# Altium footprint library AX7035_PCB_AD.PcbLib: 47 footprints (part 2 of 3)
Each footprint in its own frame and in the unit in brackets; x right, y up, seen from the top. Pads: shape width x height; smd on the part's side, far side on the other; paste and mask are expansions set on the pad; w line width, h text height; cw(c..) or ccw(c..) is an arc to the next point about the centre after c.
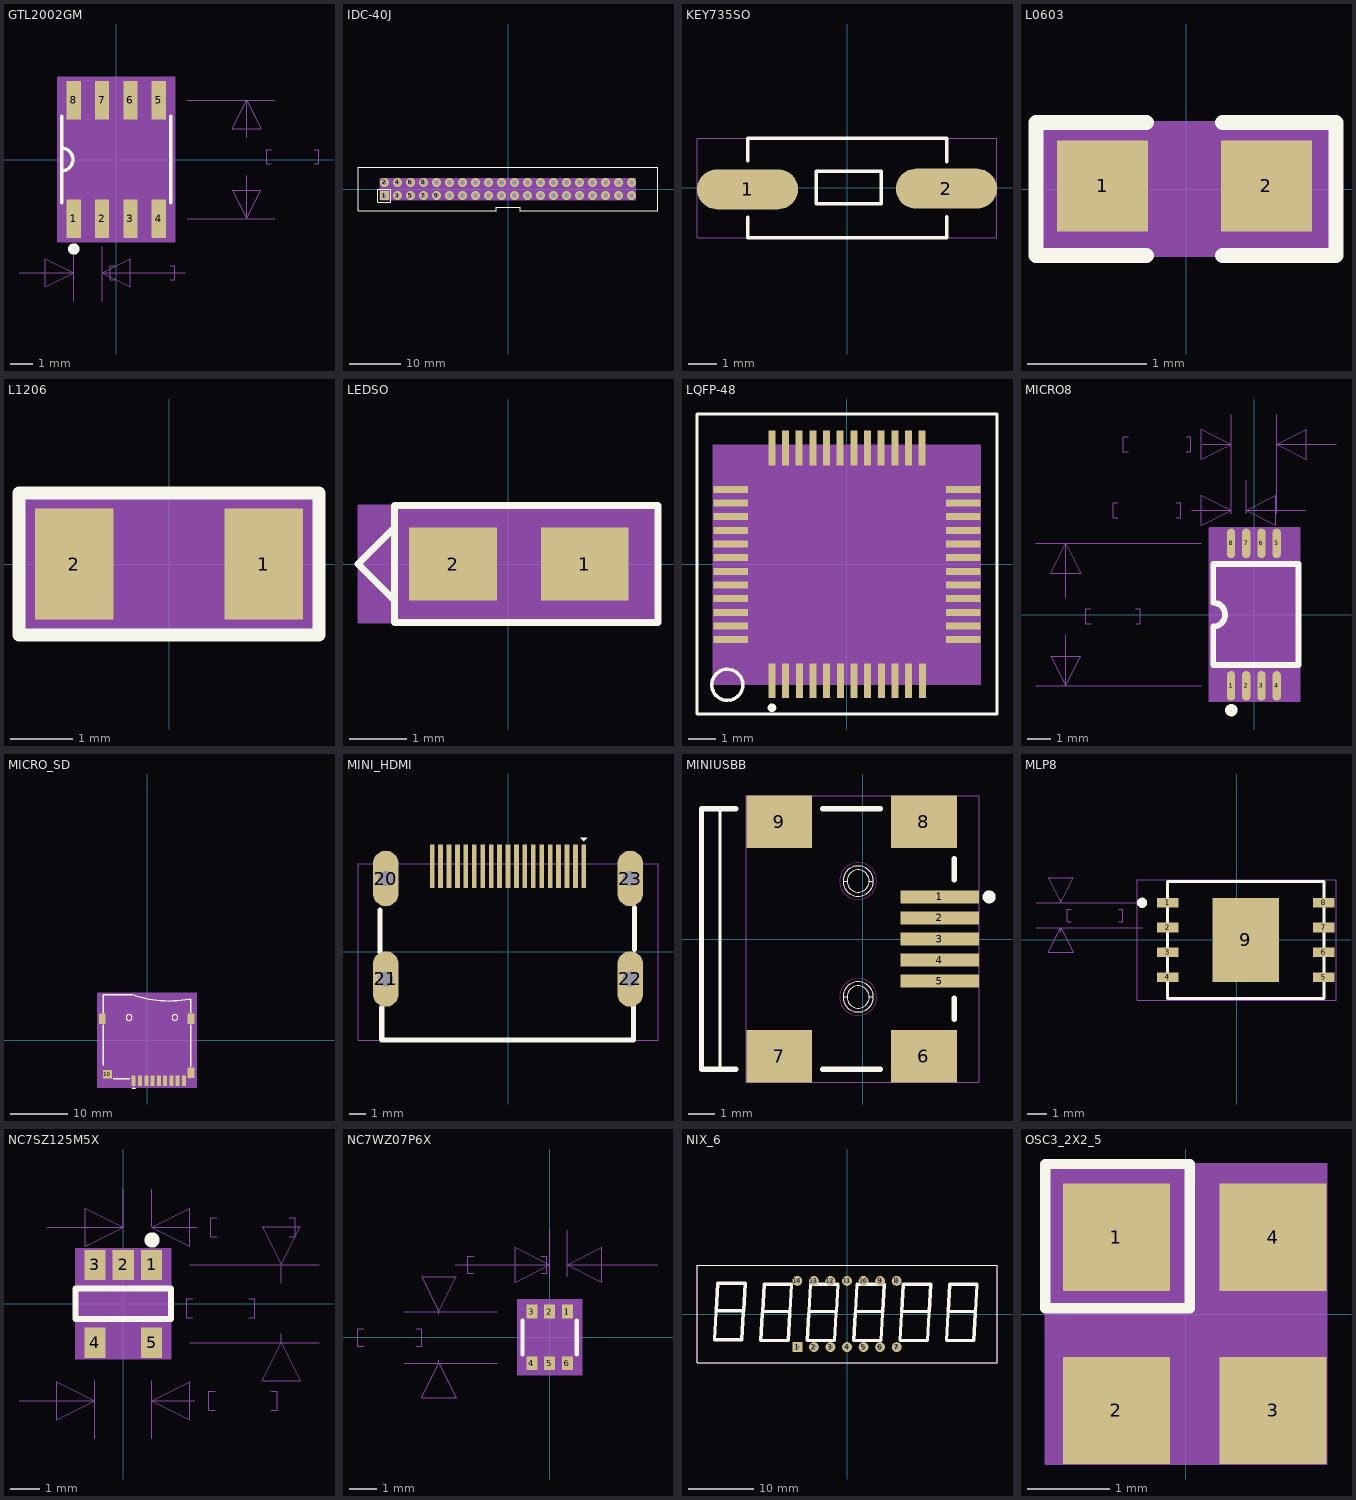
[diagram p1: the footprints below, top view; thin cyan lines are the x and y axes]

## GTL2002GM [mil] "GTL2002GM"
pads (8):
  rect 25x68 smd: 1(-75,-104.33) 2(-25,-104.33) 3(25,-104.33) 4(75,-104.33) 5(75,104.33) 6(25,104.33) 7(-25,104.33) 8(-75,104.33)
Top Overlay:
  circle w10: c-75,-158 r5.1
  lines w6: -96.46,-76.77 -96.46,76.77 ; -96.46,-20 ccw(c-96.46,0) -76.46,0 ccw(c-96.46,0) -96.46,20 ; 96.46,-76.77 96.46,76.77
Mechanical 8:
  text "1" at -75,-114.33 h25
  text "8" at -75,94.33 h25
  text "7" at -25,94.33 h25
  text "6" at 25,94.33 h25
  text "5" at 75,94.33 h25
  text "3" at 25,-114.33 h25
  text "4" at 75,-114.33 h25
  text "2" at -25,-114.33 h25
Mechanical 9:
  lines w1: -171.75,-200 -75,-200 ; -75,-250 -75,-154.33 ; -25,-250 -25,-154.33 ; -3,-212.5 -11,-212.5 -11,-187.5 -3,-187.5 ; 95,-212.5 103,-212.5 103,-187.5 95,-187.5 ; 121.75,-200 -25,-200 ; 125,-104.33 280,-104.33 ; 125,104.33 280,104.33 ; 230,-28.25 230,-104.33 ; 230,38.25 230,104.33 ; 274,-7.5 266,-7.5 266,17.5 274,17.5 ; 350,-7.5 358,-7.5 358,17.5 350,17.5 ; -75,-200 -125,-175 -125,-225 -75,-200 ; -25,-200 25,-225 25,-175 -25,-200 ; 230,-104.33 255,-54.33 205,-54.33 230,-104.33 ; 230,104.33 205,54.33 255,54.33 230,104.33
  text "50.00" at -151,-212.5 h25
  text "1.27" at 5,-212.5 h25
  text "208.66" at 104,-7.5 h25
  text "5.3" at 282,-7.5 h25
Mechanical 12:
  region: -103.96,-145.83 103.96,-145.83 103.96,145.83 -103.96,145.83
Mechanical 13:
  text ".Designator" at 0,0 h25
3D body: height 150, standoff 0, extent -103.96,-145.83 103.96,145.83

## IDC-40J [mil] "IDC-40J"
pads (40):
  rect 68x68 hole 35: 1(-950,-50)
  round 68 hole 35: 2(-950,50) 3(-850,-50) 4(-850,50) 5(-750,-50) 6(-750,50) 7(-650,-50) 8(-650,50) 9(-550,-50) 10(-550,50) 11(-450,-50) 12(-450,50) 13(-350,-50) 14(-350,50) 15(-250,-50) 16(-250,50) 17(-150,-50) 18(-150,50) 19(-50,-50) 20(-50,50) 21(50,-50) 22(50,50) 23(150,-50) 24(150,50) 25(250,-50) 26(250,50) 27(350,-50) 28(350,50) 29(450,-50) 30(450,50) 31(550,-50) 32(550,50) 33(650,-50) 34(650,50) 35(750,-50) 36(750,50) 37(850,-50) 38(850,50) 39(950,-50) 40(950,50)
Top Overlay:
  lines w5: -1153.54,-166.54 -91.54,-166.54 -91,-140 90.02,-140 90.55,-166.54 1153.53,-166.54 1153.53,166.54 -1153.54,166.54 -1153.54,-166.54 ; -1000,-100 -1000,0 -900,0 -900,-100 -1000,-100
Mechanical 8:
  text "1" at -940,-50 h25
  text "38" at 870,50 h25
  text "37" at 870,-50 h25
  text "18" at -130,50 h25
  text "12" at -430,50 h25
  text "26" at 270,50 h25
  text "24" at 170,50 h25
  text "10" at -530,50 h25
  text "21" at 70,-50 h25
  text "4" at -840,50 h25
  text "11" at -430,-50 h25
  text "16" at -230,50 h25
  text "31" at 570,-50 h25
  text "30" at 470,50 h25
  text "19" at -30,-50 h25
  text "28" at 370,50 h25
  text "13" at -330,-50 h25
  text "35" at 770,-50 h25
  text "9" at -540,-50 h25
  text "23" at 170,-50 h25
  text "20" at -30,50 h25
  text "8" at -640,50 h25
  text "29" at 470,-50 h25
  text "15" at -230,-50 h25
  text "34" at 670,50 h25
  text "22" at 70,50 h25
  text "3" at -840,-50 h25
  text "7" at -640,-50 h25
  text "32" at 570,50 h25
  text "36" at 770,50 h25
  text "5" at -740,-50 h25
  text "33" at 670,-50 h25
  text "27" at 370,-50 h25
  text "17" at -130,-50 h25
  text "14" at -330,50 h25
  text "6" at -740,50 h25
  text "25" at 270,-50 h25
  text "39" at 970,-50 h25
  text "40" at 970,50 h25
  text "2" at -940,50 h25
Mechanical 12:
  region: -984,-84 984,-84 984,84 -984,84
Mechanical 13:
  lines w1: -984,-84 -984,84 984,84 984,-84 -984,-84
3D body: height 150, standoff 0, extent -984,-84 984,84

## KEY735SO [mil] "KEY735SO"
pads (2):
  oval 140x55.12 smd: 1(-137.5,-1.9) 2(137.5,-0.9)
Top Overlay:
  lines w5: -137.5,-40.9 -137.5,-68.9 138.09,-68.9 138.09,-39.9 ; -137.5,38.1 -137.5,68.9 138.09,68.9 138.09,36.1 ; -42.5,-21.9 -42.5,23.1 47.5,23.1 47.5,-21.9 -42.5,-21.9
Mechanical 8:
  text "2" at 127.5,-0.9 h25
  text "1" at -147.5,-1.9 h25
Mechanical 12:
  lines w1: -207.5,-68.9 -207.5,68.9 207.5,68.9 207.5,-68.9 -207.5,-68.9
Mechanical 13:
  lines w1: -207.5,-68.9 -207.5,68.9 207.5,68.9 207.5,-68.9 -207.5,-68.9

## L0603 [mil] "L0603"
pads (2):
  rect 30x30 smd: 1(-27.5,1) 2(26.5,1)
Top Overlay:
  lines w5: -13,-22 -49.5,-22 -49.5,22 -13,22 ; 12,-22 49.5,-22 49.5,22 12,22
  text ".Designator" at 46.5,-72.67 h25
Mechanical 8:
  text "2" at 36.5,1 h25
  text "1" at -17.5,1 h25
Mechanical 12:
  region: -49.5,-22 49.5,-22 49.5,22 -49.5,22
Mechanical 13:
  lines w1: -49.5,-22 -49.5,22 49.5,22 49.5,-22 -49.5,-22
3D body: height 150, standoff 0, extent -49.5,-22 49.5,22

## L1206 [mil] "L1206"
pads (2):
  rect 50x70 smd: 1(60,0) 2(-60,0)
Top Overlay:
  lines w8: -95,-45 -95,45 95,45 95,-45 -95,-45
  text ".Designator" at -46.5,-87.34 h25
Mechanical 8:
  text "2" at -60,-10 h25
  text "1" at 60,-10 h25
Mechanical 10:
  region: 95,-45 -95,-45 -95,45 95,45
3D body: height 150, standoff 0, extent -95,-45 95,45

## LEDSO [mil] "LEDSO"
pads (2):
  rect 60x50 smd: 1(52.5,0) 2(-37.5,0)
Top Overlay:
  lines w5: -77.5,-25 -102.5,0 -77.5,25 ; -77.5,-40 -77.5,40 102.5,40 102.5,-35 102.5,-40 -77.5,-40
Mechanical 8:
  text "1" at 62.5,0 h25
  text "2" at -27.5,0 h25
Mechanical 12:
  region: -102.5,-40 102.5,-40 102.5,40 -102.5,40
Mechanical 13:
  lines w1: -102.5,-40 -102.5,40 102.5,40 102.5,-40 -102.5,-40
3D body: height 150, standoff 0, extent -102.5,-40 102.5,40

## LQFP-48 [mil] "LQFP-48"
pads (48):
  rect 10x50 smd: 1(-107.95,-167.5) 2(-88.27,-167.5) 3(-68.58,-167.5) 4(-48.9,-167.5) 5(-29.21,-167.5) 6(-9.53,-167.5) 7(10.16,-167.5) 8(29.84,-167.5) 9(49.53,-167.5) 10(69.21,-167.5) 11(88.9,-167.5) 12(108.58,-167.5) 25(108.27,167.5) 26(88.58,167.5) 27(68.9,167.5) 28(49.21,167.5) 29(29.53,167.5) 30(9.84,167.5) 31(-9.84,167.5) 32(-29.53,167.5) 33(-49.21,167.5) 34(-68.9,167.5) 35(-88.58,167.5) 36(-108.26,167.5)
  rect 50x10 smd: 13(167.33,-108.44) 14(167.33,-88.76) 15(167.33,-69.07) 16(167.33,-49.39) 17(167.33,-29.7) 18(167.33,-10.02) 19(167.33,9.67) 20(167.33,29.35) 21(167.33,49.04) 22(167.33,68.72) 23(167.33,88.41) 24(167.33,108.09) 37(-167.32,108.09) 38(-167.32,88.41) 39(-167.32,68.72) 40(-167.32,49.04) 41(-167.32,29.35) 42(-167.32,9.67) 43(-167.32,-10.02) 44(-167.32,-29.7) 45(-167.32,-49.39) 46(-167.32,-69.07) 47(-167.32,-88.76) 48(-167.32,-108.44)
Top Overlay:
  circle w6: c-107.95,-206.5 r3.16
  circle w5: c-172.31,-173.5 r22.37
  lines w5: -215.95,-215.5 216.05,-215.5 216.05,216.5 -215.95,216.5 -215.95,-215.5
  text ".Designator" at -238.77,179.7 h25
Mechanical 8:
  text "42" at -167.32,-10.33 h25
  text "41" at -167.32,9.35 h25
  text "35" at -88.58,147.5 h25
  text "36" at -108.26,147.5 h25
  text "48" at -167.32,-128.44 h25
  text "47" at -167.32,-108.76 h25
  text "4" at -48.9,-177.5 h25
  text "10" at 69.21,-187.5 h25
  text "9" at 49.53,-177.5 h25
  text "11" at 88.9,-187.5 h25
  text "22" at 167.33,48.72 h25
  text "23" at 167.33,68.41 h25
  text "45" at -167.32,-69.39 h25
  text "44" at -167.32,-49.7 h25
  text "43" at -167.32,-30.02 h25
  text "33" at -49.21,147.5 h25
  text "32" at -29.53,147.5 h25
  text "13" at 167.33,-128.44 h25
  text "29" at 29.53,147.5 h25
  text "19" at 167.33,-10.33 h25
  text "14" at 167.33,-108.76 h25
  text "16" at 167.33,-69.39 h25
  text "18" at 167.33,-30.02 h25
  text "27" at 68.9,147.5 h25
  text "31" at -9.84,147.5 h25
  text "7" at 10.16,-177.5 h25
  text "21" at 167.33,29.04 h25
  text "1" at -107.95,-177.5 h25
  text "30" at 9.84,147.5 h25
  text "26" at 88.58,147.5 h25
  text "37" at -167.32,88.09 h25
  text "28" at 49.21,147.5 h25
  text "5" at -29.21,-177.5 h25
  text "34" at -68.9,147.5 h25
  text "38" at -167.32,68.41 h25
  text "25" at 108.27,147.5 h25
  text "6" at -9.53,-177.5 h25
  text "2" at -88.27,-177.5 h25
  text "40" at -167.32,29.04 h25
  text "3" at -68.58,-177.5 h25
  text "8" at 29.84,-177.5 h25
  text "46" at -167.32,-89.07 h25
  text "24" at 167.33,88.09 h25
  text "12" at 108.58,-187.5 h25
  text "39" at -167.32,48.72 h25
  text "17" at 167.33,-49.7 h25
  text "20" at 167.33,9.35 h25
  text "15" at 167.33,-89.07 h25
Mechanical 12:
  region: 192.33,172.5 -192.32,172.5 -192.32,-172.5 192.33,-172.5
Mechanical 13:
  lines w1: -192.32,-172.5 192.33,-172.5 192.33,172.5 -192.32,172.5 -192.32,-172.5
3D body: height 150, standoff 0, extent -192.32,-172.5 192.33,172.5

## MICRO8 [mil] "MICRO8"
pads (8):
  oval 14x50 smd: 1(-39.39,-120) 2(-13.79,-120) 3(11.79,-120) 4(37.39,-120) 5(37.39,120) 6(11.79,120) 7(-13.79,120) 8(-39.39,120)
Top Overlay:
  circle w10: c-39,-161 r5.39
  lines w10: -69.39,-85 74,-85 74,85 -69.39,85 -69.39,20 cw(c-69.39,0) -69.39,-20 -69.39,-85
  text ".Designator" at -94.3,-30.11 h25
Mechanical 8:
  text "3" at 1.79,-120 h25
  text "5" at 27.39,120 h25
  text "6" at 1.79,120 h25
  text "4" at 27.39,-120 h25
  text "8" at -49.39,120 h25
  text "7" at -23.79,120 h25
  text "1" at -49.39,-120 h25
  text "2" at -23.79,-120 h25
Mechanical 9:
  lines w1: -368,-120 -89.39,-120 ; -368,120 -89.39,120 ; -318,-34.25 -318,-120 ; -318,28.25 -318,120 ; -276,-15.5 -284,-15.5 -284,9.5 -276,9.5 ; -230,163.5 -238,163.5 -238,188.5 -230,188.5 ; -213,274.5 -221,274.5 -221,299.5 -213,299.5 ; -200,-15.5 -192,-15.5 -192,9.5 -200,9.5 ; -132,163.5 -124,163.5 -124,188.5 -132,188.5 ; -115,274.5 -107,274.5 -107,299.5 -115,299.5 ; -105.25,176 -39.39,176 ; -88.25,287 -39.39,287 ; -39.39,226 -39.39,170 -39.39,337 ; -13.79,170 -13.79,226 ; 37.39,170 37.39,337 ; 86.21,176 -13.79,176 ; 137.39,287 37.39,287 ; -318,-120 -293,-70 -343,-70 -318,-120 ; -318,120 -343,70 -293,70 -318,120 ; -39.39,176 -89.39,201 -89.39,151 -39.39,176 ; -39.39,287 -89.39,312 -89.39,262 -39.39,287 ; -13.79,176 36.21,151 36.21,201 -13.79,176 ; 37.39,287 87.39,262 87.39,312 37.39,287
  text "6.1" at -268,-15.5 h25
  text "240.00" at -444,-15.5 h25
  text "1.95" at -205,274.5 h25
  text "76.78" at -359,274.5 h25
  text "0.65" at -222,163.5 h25
  text "25.60" at -376,163.5 h25
  text "tssop8" at -68,-209 h25
Mechanical 12:
  region: -75,147 77,147 77,-147 -77,-147 -77,145
3D body: height 150, standoff 0, extent -77,-147 77,147

## MICRO_SD [mil] "MICRO_SD"
pads (13):
  rect 27.56x70.87 smd: 1(-92,-280.5) 2(-48.69,-280.5) 3(-5.39,-280.5) 4(37.92,-280.5) 5(81.23,-280.5) 6(124.54,-280.5) 7(167.84,-280.5) 8(211.15,-280.5) 9(254.46,-280.5)
  rect 62.99x59.06 smd: 10(-273.1,-235.22)
  rect 47.24x70.87 smd: 11(301.7,-225.38) 12(301.7,148.63) 13(-308.54,148.63)
Top Overlay:
  circle w5: c-123.5,156.51 r19.68
  circle w5: c191.46,156.51 r19.68
  pour cut-out: -78,-336.5 -104,-336.5 -91,-323.5
  lines w10: -301.54,-172.5 -301.54,107.5 ; -301.54,185.5 -301.54,311.5 ; -301.54,313.5 -98.06,313.5 ccw(c151.13,1000.55) 292.46,283.5 300.46,283.5 ; -231.54,-266.5 -119.54,-266.5 ; 300.46,-184.5 300.46,105.5 ; 302.46,187.5 302.46,281.5
Keep-Out Layer:
  circle w1: c-123.5,156.51 r19.64
  circle w1: c191.46,156.51 r19.64
Mechanical 8:
  text "6" at 114.54,-280.5 h25
  text "11" at 281.7,-225.38 h25
  text "10" at -293.1,-235.22 h25
  text "13" at -328.54,148.63 h25
  text "12" at 281.7,148.63 h25
  text "5" at 71.23,-280.5 h25
  text "3" at -15.39,-280.5 h25
  text "8" at 201.15,-280.5 h25
  text "7" at 157.84,-280.5 h25
  text "9" at 244.46,-280.5 h25
  text "1" at -102,-280.5 h25
  text "2" at -58.69,-280.5 h25
  text "4" at 27.92,-280.5 h25
Mechanical 10:
  region: 342,-326.5 -342,-326.5 -342,326.5 342,326.5
Mechanical 11:
  text ".Designator" at 8,-9.5 h25
Multi-Layer keep-out:
  circle w1: c-123.5,156.51 r29.64
  circle w1: c191.46,156.51 r29.64
3D body: height 150, standoff 0, extent -342,-326.5 342,326.5

## MINI_HDMI [mil] "MINI_HDMI"
pads (23):
  rect 11.02x102.36 smd: 1(177.16,200.25) 2(157.47,200.25) 3(137.79,200.25) 4(118.1,200.25) 5(98.42,200.25) 6(78.73,200.25) 7(59.05,200.25) 8(39.36,200.25) 9(19.68,200.25) 10(-0.01,200.25) 11(-19.69,200.25) 12(-39.38,200.25) 13(-59.06,200.25) 14(-78.75,200.25) 15(-98.43,200.25) 16(-118.12,200.25) 17(-137.8,200.25) 18(-157.49,200.25) 19(-177.17,200.25)
  oval 60x129.92 hole 35.43: 20(-285.44,171.51) 21(-285.44,-63.14) 22(285.43,-63.14) 23(285.43,171.51)
Top Overlay:
  pour cut-out: 177.16,258.25 185.16,266.25 169.16,266.25
  lines w12: -298.84,0.25 -298.84,98.25 ; -294.84,-129.75 -294.84,-205.75 293.16,-205.75 293.16,-125.75 ; 295.16,6.25 295.16,104.25
Mechanical 8:
  text "5" at 98.42,210.25 h25
  text "2" at 157.47,210.25 h25
  text "11" at -19.69,220.25 h25
  text "8" at 39.36,210.25 h25
  text "17" at -137.8,220.25 h25
  text "14" at -78.75,220.25 h25
  text "4" at 118.1,210.25 h25
  text "13" at -59.06,220.25 h25
  text "19" at -177.17,220.25 h25
  text "22" at 285.43,-43.14 h25
  text "23" at 285.43,191.51 h25
  text "20" at -285.44,191.51 h25
  text "21" at -285.44,-43.14 h25
  text "18" at -157.49,220.25 h25
  text "1" at 177.16,210.25 h25
  text "3" at 137.79,210.25 h25
  text "6" at 78.73,210.25 h25
  text "7" at 59.05,210.25 h25
  text "9" at 19.68,210.25 h25
  text "10" at -0.01,220.25 h25
  text "12" at -39.38,220.25 h25
  text "15" at -98.43,220.25 h25
  text "16" at -118.12,220.25 h25
Mechanical 12:
  lines w1: -350.4,-205.75 350.39,-205.75 350.39,205.76 -350.4,205.76 -350.4,-205.75
Mechanical 13:
  lines w1: -350.4,-205.75 350.39,-205.75 350.39,205.76 -350.4,205.76 -350.4,-205.75
  text ".Designator" at -34.84,-9.75 h25

## MINIUSBB [mm] "MINIUSBB"
pads (9):
  rect 3x0.5 smd: 1(2.925,1.6) 2(2.925,0.8) 3(2.925,0) 4(2.925,-0.8) 5(2.925,-1.6)
  rect 2.5x2 smd: 6(2.325,-4.45) 7(-3.175,-4.45) 8(2.325,4.45) 9(-3.175,4.45)
Top Overlay:
  circle w0.25: c4.8,1.6 r0.125
  lines w0.025: 0.249,-2.2 cw(c-0.175,-2.2) -0.599,-2.2 cw(c-0.175,-2.2) 0.249,-2.2 ; 0.249,-2.2 0.401,-2.2 ; 0.249,-2.2 0.401,-2.2 ; 0.249,2.2 cw(c-0.175,2.2) -0.599,2.2 cw(c-0.175,2.2) 0.249,2.2 ; 0.249,2.2 0.401,2.2 ; 0.249,2.2 0.401,2.2 ; 0.401,-2.2 cw(c-0.175,-2.2) -0.751,-2.2 cw(c-0.175,-2.2) 0.401,-2.2 ; 0.401,2.2 cw(c-0.175,2.2) -0.751,2.2 cw(c-0.175,2.2) 0.401,2.2 ; -0.751,-2.2 -0.599,-2.2 -0.751,-2.2 ; -0.751,2.2 -0.599,2.2 -0.751,2.2
  lines w0.1: -5.425,-4.95 -5.425,4.95
  lines w0.2: -4.825,-4.95 -6.125,-4.95 -6.125,4.95 -4.825,4.95 ; -1.525,-4.95 0.675,-4.95 ; -1.525,4.95 0.675,4.95 ; 3.475,-3.05 3.475,-2.25 ; 3.475,2.25 3.475,3.05
  text ".Designator" at 1.709,6.009 h0.64
Keep-Out Layer:
  circle w0.025: c-0.175,-2.2 r0.576
  circle w0.025: c-0.175,2.2 r0.576
Mechanical 8:
  text "3" at 2.671,0 h0.64
  text "2" at 2.671,0.8 h0.64
  text "1" at 2.671,1.6 h0.64
  text "4" at 2.671,-0.8 h0.64
  text "7" at -3.429,-4.45 h0.64
  text "6" at 2.071,-4.45 h0.64
  text "5" at 2.671,-1.6 h0.64
  text "9" at -3.429,4.45 h0.64
  text "8" at 2.071,4.45 h0.64
Mechanical 12:
  lines w0.025: -4.425,-5.45 4.425,-5.45 4.425,5.45 -4.425,5.45 -4.425,-5.45
Mechanical 13:
  lines w0.025: -4.425,-5.45 4.425,-5.45 4.425,5.45 -4.425,5.45 -4.425,-5.45
Multi-Layer keep-out:
  circle w0.025: c-0.175,-2.2 r0.703
  circle w0.025: c-0.175,2.2 r0.703

## MLP8 [mil] "MLP8"
pads (9):
  rect 43.31x19.68 smd: 1(-138.83,75) 2(-138.83,25) 3(-138.83,-25) 4(-138.83,-75) 5(176.13,-75) 6(176.13,-25) 7(176.13,25) 8(176.13,75)
  rect 133.86x169.29 smd: 9(18.65,0)
Top Overlay:
  circle w9.84: c-190.35,75 r5.39
  lines w6: -138.83,-118.11 176.13,-118.11 176.13,118.11 -138.83,118.11 -138.83,-118.11
  text ".Designator" at -29.66,139.09 h25
Mechanical 8:
  text "7" at 166.13,25 h25
  text "3" at -148.83,-25 h25
  text "2" at -148.83,25 h25
  text "5" at 166.13,-75 h25
  text "8" at 166.13,75 h25
  text "6" at 166.13,-25 h25
  text "1" at -148.83,75 h25
  text "4" at -148.83,-75 h25
  text "9" at 10.65,0 h20
Mechanical 9:
  lines w1: -404.35,25 -188.83,25 ; -404.35,75 -188.83,75 ; -354.35,15.75 -354.35,25 ; -354.35,82.25 -354.35,75 ; -332.85,36.5 -340.85,36.5 -340.85,61.5 -332.85,61.5 ; -237.85,36.5 -229.85,36.5 -229.85,61.5 -237.85,61.5 ; -354.35,25 -329.35,-25 -379.35,-25 -354.35,25 ; -354.35,75 -379.35,125 -329.35,125 -354.35,75
  text "1.27" at -324.85,36.5 h20
  text "50.00" at -476.85,36.5 h20
Mechanical 12:
  lines w1: -200.66,-121.11 200.65,-121.11 200.65,121.11 -200.66,121.11 -200.66,-121.11

## NC7SZ125M5X [mil] "NC7SZ125M5X"
pads (5):
  rect 28x40 smd: 1(37.4,51.18) 2(0,51.18) 3(-37.4,51.18) 4(-37.4,-51.18) 5(37.4,-51.18)
Top Overlay:
  circle w10: c38,84 r5
  lines w8: -63,-20 63,-20 63,20 -63,20 -63,-20
Mechanical 8:
  text "2" at 10,51.18 h25
  text "5" at 47.4,-51.18 h25
  text "4" at -27.4,-51.18 h25
  text "1" at 47.4,51.18 h25
  text "3" at -27.4,51.18 h25
Mechanical 9:
  lines w1: -137.4,-128 -37.4,-128 ; -100,101 0,101 ; -37.4,-178 -37.4,-101.18 ; 0,101.18 0,151 ; 37.4,-178 37.4,-101.18 ; 37.4,101.18 37.4,151 ; 87.4,-51.18 258,-51.18 ; 87.4,51.18 258,51.18 ; 91.5,-18.5 83.5,-18.5 83.5,6.5 91.5,6.5 ; 94.25,-128 37.4,-128 ; 96.75,101 37.4,101 ; 121,-140.5 113,-140.5 113,-115.5 121,-115.5 ; 123.5,88.5 115.5,88.5 115.5,113.5 123.5,113.5 ; 165.5,-18.5 173.5,-18.5 173.5,6.5 165.5,6.5 ; 195,-140.5 203,-140.5 203,-115.5 195,-115.5 ; 208,-39.25 208,-51.18 ; 208,27.25 208,51.18 ; 218.5,88.5 226.5,88.5 226.5,113.5 218.5,113.5 ; -37.4,-128 -87.4,-153 -87.4,-103 -37.4,-128 ; 0,101 -50,76 -50,126 0,101 ; 37.4,-128 87.4,-103 87.4,-153 37.4,-128 ; 37.4,101 87.4,126 87.4,76 37.4,101 ; 208,-51.18 233,-101.18 183,-101.18 208,-51.18 ; 208,51.18 183,101.18 233,101.18 208,51.18
  text "sot23-5" at 73,188 h25
  text "74.80" at 339,-115.5 h25
  text "1.9" at 187,-115.5 h25
  text "37.40" at 362.5,113.5 h25
  text "0.95" at 210.5,113.5 h25
  text "102.36" at 330.5,6.5 h25
  text "2.6" at 157.5,6.5 h25
Mechanical 10:
  region: -63,-73 -63,73 63,73 63,-73
Mechanical 11:
  text ".Designator" at 44,3 h25
3D body: height 150, standoff 0, extent -63,-73 63,73

## NC7WZ07P6X [mil] "NC7WZ07P6X"
pads (6):
  rect 16x20 smd: 1(25.59,37.4) 2(0,37.4) 3(-25.59,37.4) 4(-25.59,-37.4) 5(0,-37.4) 6(25.59,-37.4)
Top Overlay:
  lines w6: -39.37,-24.61 -39.37,24.61 ; 39.37,-24.61 39.37,24.61
  text ".Designator" at 75.33,-41 h25
Mechanical 8:
  text "2" at 0,47.4 h25
  text "6" at 25.59,-27.4 h25
  text "1" at 25.59,47.4 h25
  text "4" at -25.59,-27.4 h25
  text "3" at -25.59,47.4 h25
  text "5" at 0,-27.4 h25
Mechanical 9:
  lines w1: -269,-12.5 -277,-12.5 -277,12.5 -269,12.5 ; -210,-37.4 -75.59,-37.4 ; -210,37.4 -75.59,37.4 ; -193,-12.5 -185,-12.5 -185,12.5 -193,12.5 ; -160,-33.25 -160,-37.4 ; -160,33.25 -160,37.4 ; -136.75,105 0,105 ; -110,92.5 -118,92.5 -118,117.5 -110,117.5 ; -12,92.5 -4,92.5 -4,117.5 -12,117.5 ; 0,87.4 0,155 ; 25.59,87.4 25.59,155 ; 156.75,105 25.59,105 ; -160,-37.4 -185,-87.4 -135,-87.4 -160,-37.4 ; -160,37.4 -135,87.4 -185,87.4 -160,37.4 ; 0,105 -50,130 -50,80 0,105 ; 25.59,105 75.59,80 75.59,130 25.59,105
  text "0.65" at -20,117.5 h25
  text "25.59" at 136,117.5 h25
  text "1.9" at -201,12.5 h25
  text "74.80" at -45,12.5 h25
Mechanical 10:
  region: -46.87,54.9 46.87,54.9 46.87,-54.9 -46.87,-54.9
3D body: height 150, standoff 0, extent -46.87,-54.9 46.87,54.9

## NIX_6 [mil] "NIX_6"
pads (14):
  rect 59.84x59.84 hole 29.92: 1(-300,-200)
  round 59.84 hole 29.92: 2(-200,-200) 3(-100,-200) 4(0,-200) 5(100,-200) 6(200,-200) 7(300,-200) 8(300,200) 9(200,200) 10(100,200) 11(0,200) 12(-100,200) 13(-200,200) 14(-300,200)
Top Overlay:
  lines w5.12: -905.51,-295.28 -905.51,295.28 905.51,295.28 905.51,-295.28 -905.51,-295.28
  lines w19.69: -790.94,10.63 -800,-154.72 -634.65,-154.72 -625.59,10.63 ; -511.02,5.51 -520.08,-159.84 -354.72,-159.84 -345.67,5.51 ; -231.1,5.51 -240.16,-159.84 -74.8,-159.84 -65.75,5.51 ; 49.21,5.51 40.16,-159.84 205.51,-159.84 214.57,5.51 ; 329.13,5.51 320.08,-159.84 485.43,-159.84 494.49,5.51 ; 609.06,5.51 600,-159.84 765.35,-159.84 774.41,5.51 ; -788.98,20.08 -623.62,20.08 -614.57,185.43 -779.92,185.43 -788.98,20.08 ; -509.06,14.57 -343.7,14.57 -334.65,179.92 -500,179.92 -509.06,14.57 ; -229.13,14.57 -63.78,14.57 -54.72,179.92 -220.08,179.92 -229.13,14.57 ; 50.79,14.57 216.14,14.57 225.2,179.92 59.84,179.92 50.79,14.57 ; 331.1,14.57 496.46,14.57 505.51,179.92 340.16,179.92 331.1,14.57 ; 611.02,14.57 776.38,14.57 785.43,179.92 620.08,179.92 611.02,14.57
  text "." at -566.93,-168.11 h250
  text "." at -290.16,-166.14 h250
  text "." at -3.15,-170.08 h250
  text "." at 275.98,-170.08 h250
  text "." at 557.87,-172.05 h250
  text "." at 840.16,-170.08 h250
Mechanical 8:
  text "2" at -210.08,-200 h25.2
  text "8" at 289.92,200 h25.2
  text "7" at 289.92,-200 h25.2
  text "6" at 189.92,-200 h25.2
  text "5" at 89.92,-200 h25.2
  text "13" at -220.16,200 h25.2
  text "10" at 79.84,200 h25.2
  text "14" at -320.16,200 h25.2
  text "12" at -120.16,200 h25.2
  text "4" at -10.08,-200 h25.2
  text "3" at -110.08,-200 h25.2
  text "9" at 189.92,200 h25.2
  text "1" at -310.08,-200 h25.2
  text "11" at -20.16,200 h25.2
Mechanical 12:
  lines w1: -905.51,-295.28 -905.51,295.28 905.51,295.28 905.51,-295.28 -905.51,-295.28
Mechanical 13:
  lines w1: -905.51,-295.28 -905.51,295.28 905.51,295.28 905.51,-295.28 -905.51,-295.28
  text ".Designator" at -17,9 h25.2

## OSC3_2X2_5 [mil] "OSC3_2X2_5"
pads (4):
  rect 51.18x51.18 smd: 1(-33.19,36.64) 2(-33.19,-46.04) 3(41.61,-46.04) 4(41.61,36.64)
Top Overlay:
  lines w5: -67.19,2.64 -67.19,71.64 1.81,71.64 1.81,2.64 -67.19,2.64
  text ".Designator" at -122.5,-6.33 h25
Mechanical 8:
  text "2" at -43.19,-46.04 h25
  text "1" at -43.19,36.64 h25
  text "4" at 31.61,36.64 h25
  text "3" at 31.61,-46.04 h25
Mechanical 12:
  region: 67.2,-71.63 67.2,71.64 -67.19,71.64 -67.19,-71.63
Mechanical 13:
  lines w1: -67.19,-71.63 67.2,-71.63 67.2,71.64 -67.19,71.64 -67.19,-71.63
3D body: height 150, standoff 0, extent -67.19,-71.63 67.2,71.64